# EAGLE library part PCM1800E (library burr-brown)
Single-Ended Analog Input 20-Bit Stereo ADC
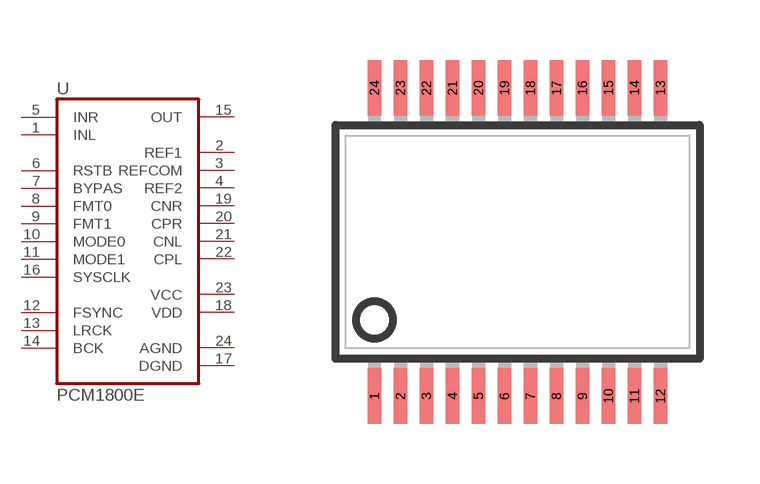
[diagram p107: symbol with the pads of SSOP24BU; footprint SSOP24BU]

Designator prefix U

## PCM1800E  [SSOP24BU]
1  INL  in
2  REF1  pas
3  REFCOM  pas
4  REF2  pas
5  INR  in
6  RSTB  in
7  BYPAS  in
8  FMT0  in
9  FMT1  in
10  MODE0  in
11  MODE1  in
12  FSYNC
13  LRCK
14  BCK
15  OUT  out
16  SYSCLK  in
17  DGND  pwr
18  VDD  pwr
19  CNR  pas
20  CPR  pas
21  CNL  pas
22  CPL  pas
23  VCC  pwr
24  AGND  pwr

## Footprint SSOP24BU (pad centres in mm)
Small Shrink Outline Package
smd 0.348 x 1.397: 1 -3.575,-3.856; 2 -2.925,-3.856; 3 -2.275,-3.856; 4 -1.625,-3.856; 5 -0.975,-3.856; 6 -0.325,-3.856; 7 0.325,-3.856; 8 0.975,-3.856; 9 1.625,-3.856; 10 2.275,-3.856; 11 2.925,-3.856; 12 3.575,-3.856; 13 3.575,3.856; 14 2.925,3.856; 15 2.275,3.856; 16 1.625,3.856; 17 0.975,3.856; 18 0.325,3.856; 19 -0.325,3.856; 20 -0.975,3.856; 21 -1.625,3.856; 22 -2.275,3.856; 23 -2.925,3.856; 24 -3.575,3.856